# EAGLE library part DM3AT (library HIROSE-DM3AT)
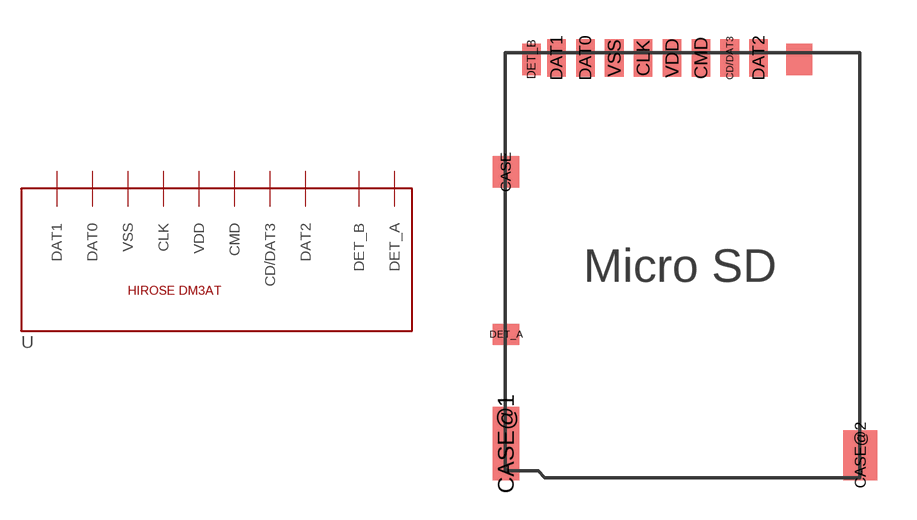
[diagram p0: symbol with the pads of DM3AT; footprint DM3AT]

Designator prefix U

## DM3AT  [DM3AT]
CD/DAT3  CD/DAT3
CLK  CLK
CMD  CMD
DAT0  DAT0
DAT1  DAT1
DAT2  DAT2
DET_A  DET_A
DET_B  DET_B
VDD  VDD
VSS  VSS

## Footprint DM3AT (pad centres in mm)
smd 1 x 1.2: CASE -6.785,2.28
smd 1 x 2.8: CASE@1 -6.785,-8.07
smd 1.3 x 1.9: CASE@2 6.715,-8.52
smd 0.711 x 1.422: CD/DAT3 1.74,6.63; CLK -1.56,6.63; CMD 0.64,6.63; DAT0 -3.76,6.63; DAT1 -4.86,6.63; DAT2 2.84,6.63; VDD -0.46,6.63; VSS -2.66,6.63
smd 1 x 0.8: DET_A -6.785,-3.92
smd 0.7 x 1.2: DET_B -5.81,6.58